# Altium schematic symbol library FYP_Connectors.SchLib: 2 symbols
Pins are listed as number, name and electrical type; pins without a type are passive.

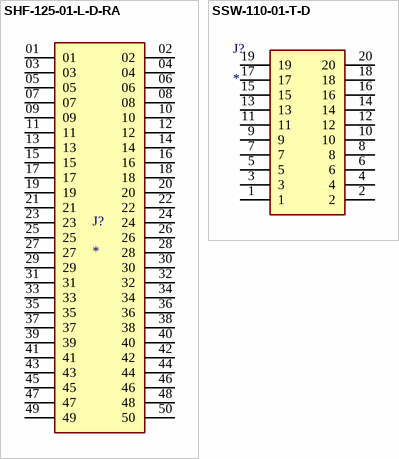
[diagram p0: symbols SHF-125-01-L-D-RA to SSW-110-01-T-D]

## SHF-125-01-L-D-RA
designator J?
50-Pin Simplus Connector; MP: SHF-125-01-L-D-RA; MF: Samtec; Package: None; Price: None; Availability: Unavailable; Value: *
footprint SAMTEC_SHF-125-01-L-D-RA
pins: 01, 02, 03, 04, 05, 06, 07, 08, 09, 10, 11, 12, 13, 14, 15, 16, 17, 18, 19, 20, 21, 22, 23, 24, 25, 26, 27, 28, 29, 30, 31, 32, 33, 34, 35, 36, 37, 38, 39, 40, 41, 42, 43, 44, 45, 46, 47, 48, 49, 50

## SSW-110-01-T-D
designator J?
20-Pin EVM Connector; Manufacturer_Name: SAMTEC; Manufacturer_Part_Number: SSW-110-01-T-D; Datasheet Link: http://suddendocs.samtec.com/prints/ssw-1xx-xx-xxx-x-xx-xxx-xx-mkt.pdf; Mouser Part Number: 200-SSW11001TD; Mouser Price/Stock: https://www.mouser.co.uk/ProductDetail/Samtec/SSW-110-01-T-D?qs=rkdpAy2aP%2F9uJOQW5acCOw%3D%3D; Arrow Part Number: SSW-110-01-T-D; Arrow Price/Stock: https://www.arrow.com/en/products/ssw-110-01-t-d/samtec?region=nac
footprint SAMTEC_SSW-110-01-T-D
pins: 1, 2, 3, 4, 5, 6, 7, 8, 9, 10, 11, 12, 13, 14, 15, 16, 17, 18, 19, 20